# Altium footprint library Connector.PcbLib: 116 footprints (part 7 of 8)
Each footprint in its own frame and in the unit in brackets; x right, y up, seen from the top. Pads: shape width x height; smd on the part's side, far side on the other; paste and mask are expansions set on the pad; w line width, h text height; cw(c..) or ccw(c..) is an arc to the next point about the centre after c.
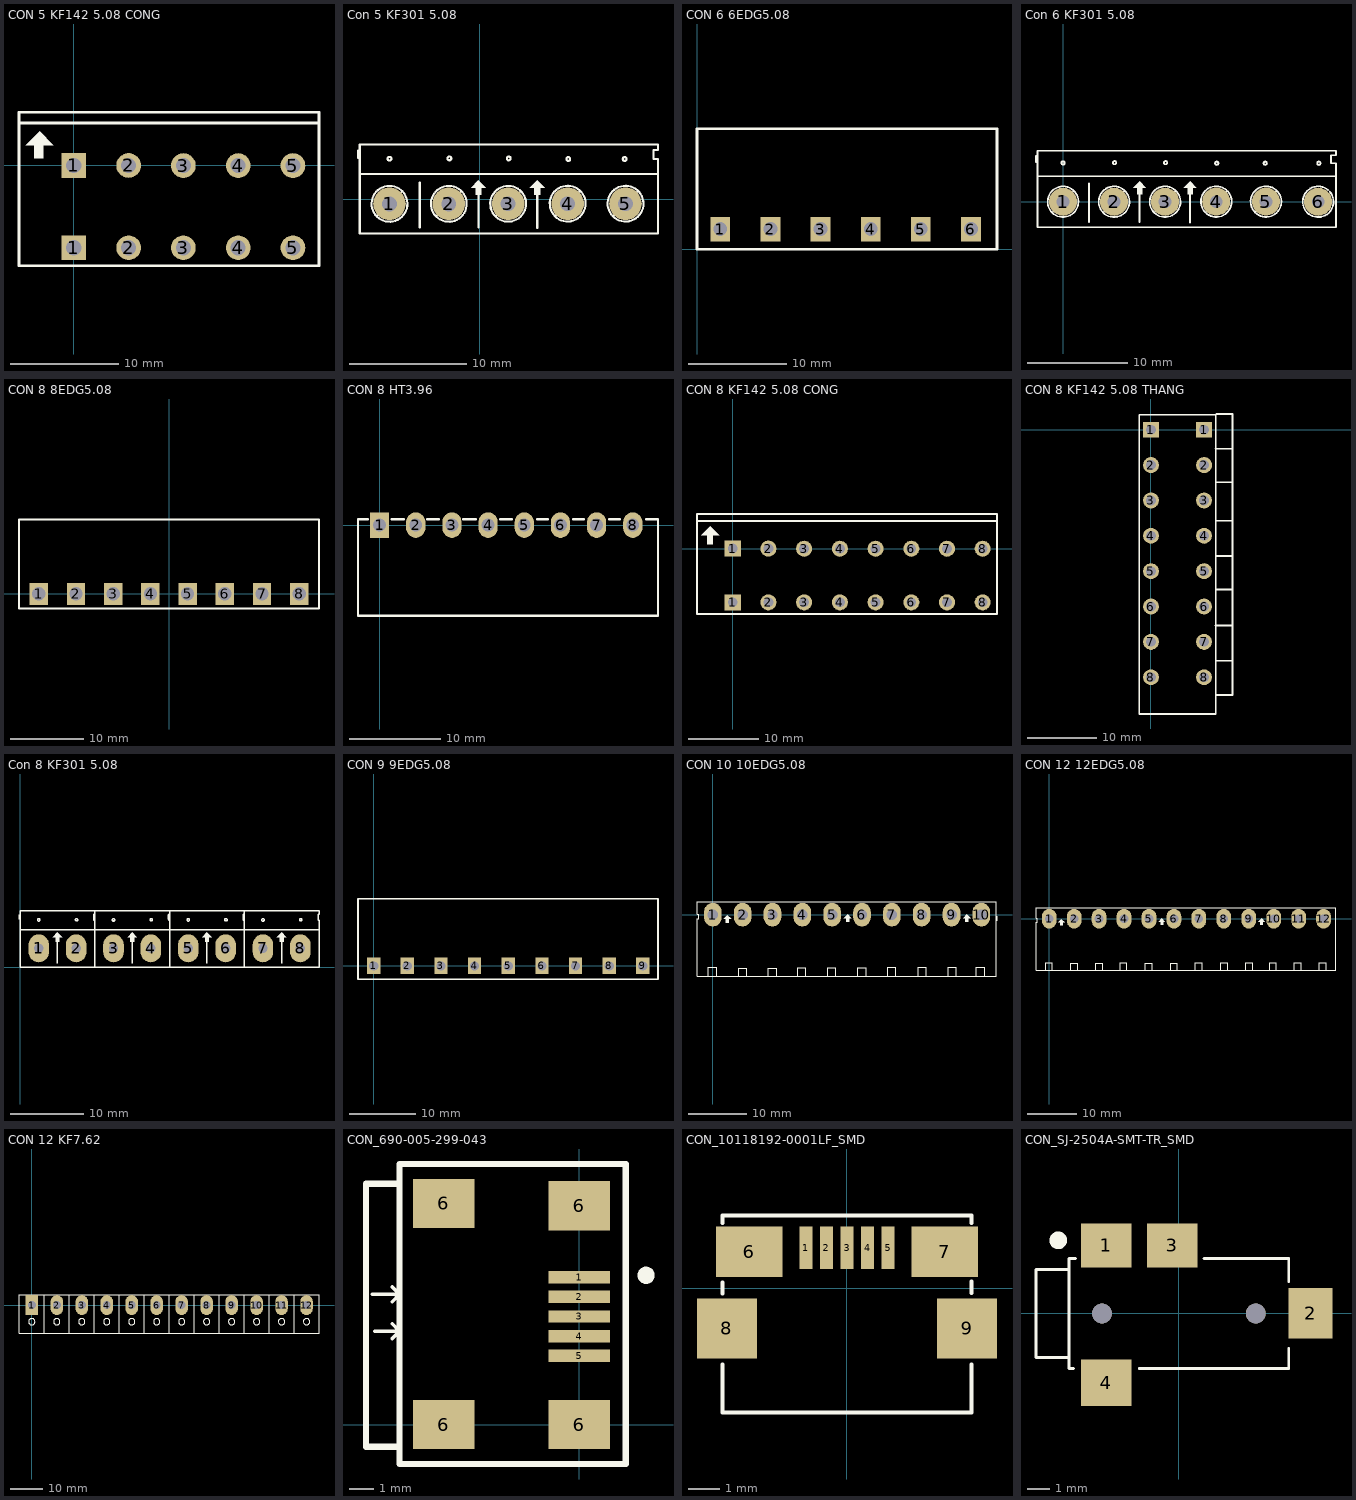
[diagram p6: the footprints below, top view; thin cyan lines are the x and y axes]

## CON 5 KF142 5.08 CONG [mil]
pads (10):
  rect 90x90 hole 55.12: 1(0,-300.39) 1(0,0)
  round 90 hole 55.12: 2(200,-300.39) 2(200,0) 3(400,-300.39) 3(400,-0.39) 4(600,-300.39) 4(600,-0.39) 5(800,-300.39) 5(800,-0.39)
Top Overlay:
  rectangle: -145,24.61 -110,74.61
  region: -175,74.61 -125,124.61 -75,74.61
  lines w10: -200,64.61 -200,154.61 ; -200,65.61 -200,-366.39 895,-366.39 ; 890,154.61 -200,154.61 ; 895,-365 895,190 ; 895,194.61 -200,194.61 -200,154.61
3D body "Terminal Blocks Fixed SPRING 5PIN.stp": height 520.69, standoff -137.32, extent -194.21,-370 904.21,190.69

## Con 5 KF301 5.08 [mil]
pads (5):
  round 110 hole 50: 1(-305,-15) 2(-105,-15) 3(95.06,-14.94) 4(295.39,-14.61) 5(490.39,-14.61)
Top Overlay:
  circle w7: c487.6,136 r6.4
  circle w7: c-103,138 r6.4
  circle w7: c-305,137 r6.4
  circle w7: c97,138 r6.4
  circle w7: c297.6,136 r6.4
  region: 193,65 168,40 183,40 183,15 203,15 203,40 218,40
  region: -5,65 -30,40 -15,40 -15,15 5,15 5,40 20,40
  lines w7: -411,140 -411,165 ; -405,85 600,85 ; -347,-57 -262,28 ; -265.96,31.05 ccw(c-305,-15) -259.82,25.05 ; -203,-94 -203,57 ; -147,-57 -62.5,27.5 ; -65.24,30.44 ccw(c-105,-15) -59.82,25.05 ; -5,-94 -5,25 ; 53.5,-56.5 137.5,27.5 ; 134.27,30.97 ccw(c95.06,-14.94) 140.19,25.17 ; 192.97,-96.03 192.97,54.97 ; 254,-56 338.5,28.5 ; 335.16,31.18 ccw(c295.59,-14.41) 341.12,25.23 ; 449,-56 533.5,28.5 ; 530.16,31.18 ccw(c490.59,-14.41) 536.12,25.23 ; -405,-115 -405,35 -405,185 600,185 600,167 585,167 585,136 600,136 600,-115 -405,-115

## CON 6 6EDG5.08 [mm]
pads (6):
  rect 2x2.5 hole 1.4: 1(2.362,2.057) 2(7.442,2.057) 3(12.522,2.057) 4(17.602,2.057) 5(22.682,2.057) 6(27.762,2.057)
Top Overlay:
  lines w0.254: 16.205,12.217 30.404,12.217 30.404,0.025 30.302,0.025 20.142,0.025 9.982,0.025 0,0.025 0,12.217 20.142,12.217
3D body "User Library-BigHeader 5EHDR_1P.step": height 3.15, standoff -9.32, extent 25.262,0.308 30.262,12.308
3D body "User Library-BigHeader 5EHDR_1P.step": height 3.15, standoff -9.32, extent 20.182,0.308 25.182,12.308
3D body "User Library-BigHeader 5EHDR_1P.step": height 3.15, standoff -9.32, extent 15.102,0.308 20.102,12.308
3D body "User Library-BigHeader 5EHDR_1P.step": height 3.15, standoff -9.32, extent 10.022,0.308 15.022,12.308
3D body "User Library-BigHeader 5EHDR_1P.step": height 3.15, standoff -9.32, extent 4.942,0.308 9.942,12.308
3D body "User Library-BigHeader 5EHDR_1P.step": height 3.15, standoff -9.32, extent -0.138,0.308 4.862,12.308

## Con 6 KF301 5.08 [mil]
pads (6):
  round 110 hole 50: 1(0,0) 2(200,0) 3(400.06,0.06) 4(600.39,0.39) 5(795.39,0.39) 6(1000,0)
Top Overlay:
  circle w7: c602.6,151 r6.4
  circle w7: c402,153 r6.4
  circle w7: c0,152 r6.4
  circle w7: c202,153 r6.4
  circle w7: c792.6,151 r6.4
  circle w7: c1002.6,151 r6.4
  region: 300,80 275,55 290,55 290,30 310,30 310,55 325,55
  region: 498,80 473,55 488,55 488,30 508,30 508,55 523,55
  lines w7: -106,155 -106,180 ; -100,100 1070,100 ; -42,-42 43,43 ; 39.04,46.05 ccw(c0,0) 45.18,40.05 ; 102,-79 102,72 ; 158,-42 242.5,42.5 ; 239.76,45.44 ccw(c200,0) 245.18,40.05 ; 300,-79 300,40 ; 358.5,-41.5 442.5,42.5 ; 439.27,45.97 ccw(c400.06,0.06) 445.19,40.17 ; 497.97,-81.03 497.97,69.97 ; 559,-41 643.5,43.5 ; 640.16,46.18 ccw(c600.59,0.59) 646.12,40.23 ; 754,-41 838.5,43.5 ; 835.16,46.18 ccw(c795.59,0.59) 841.12,40.23 ; 1039.57,45.6 ccw(c1000,0) 1045.53,39.65 ; -100,-100 1070,-100 1070,151 1050,151 1050,182 1070,182 1070,200 -100,200 -100,50 -100,-100
3D body "SW3dPS-KRM2.STEP": height 393.7, standoff -157.48, extent 683.15,-100 1076.85,195.28
3D body "SW3dPS-KRM2.STEP": height 393.7, standoff -157.48, extent 293.15,-100 686.85,195.28
3D body "SW3dPS-KRM2.STEP": height 393.7, standoff -157.48, extent -96.85,-100 296.85,195.28

## CON 8 8EDG5.08 [mm]
pads (8):
  rect 2.5x3 hole 1.8: 1(-17.78,0) 2(-12.7,0) 3(-7.62,0) 4(-2.54,0) 5(2.54,0) 6(7.62,0) 7(12.7,0) 8(17.78,0)
Top Overlay:
  lines w0.254: -3.937,10.16 20.475,10.16 20.475,-2.032 10.16,-2.032 0,-2.032 -10.16,-2.032 -20.475,-2.032 -20.475,10.16 0,10.16
3D body "User Library-BigHeader 5EHDR_1P.step": height 3.15, standoff -9.32, extent 15.28,-1.75 20.28,10.25
3D body "User Library-BigHeader 5EHDR_1P.step": height 3.15, standoff -9.32, extent 10.2,-1.75 15.2,10.25
3D body "User Library-BigHeader 5EHDR_1P.step": height 3.15, standoff -9.32, extent 5.12,-1.75 10.12,10.25
3D body "User Library-BigHeader 5EHDR_1P.step": height 3.15, standoff -9.32, extent 0.04,-1.75 5.04,10.25
3D body "User Library-BigHeader 5EHDR_1P.step": height 3.15, standoff -9.32, extent -5.04,-1.75 -0.04,10.25
3D body "User Library-BigHeader 5EHDR_1P.step": height 3.15, standoff -9.32, extent -10.12,-1.75 -5.12,10.25
3D body "User Library-BigHeader 5EHDR_1P.step": height 3.15, standoff -9.32, extent -15.2,-1.75 -10.2,10.25
3D body "User Library-BigHeader 5EHDR_1P.step": height 3.15, standoff -9.32, extent -20.28,-1.75 -15.28,10.25

## CON 8 HT3.96 [mm]
pads (8):
  rect 2.1x2.794 hole 1.4: 1(0,0)
  oval 2.1x2.794 hole 1.4: 2(3.96,0) 3(7.92,0) 4(11.88,0) 5(15.84,0) 6(19.8,0) 7(23.76,0) 8(27.72,0)
Top Overlay:
  lines w0.254: -1.295,0.635 -2.362,0.635 -2.362,-9.906 30.48,-9.906 30.48,0.381 ; 1.295,0.635 2.667,0.635 ; 5.207,0.635 6.477,0.635 ; 9.144,0.635 10.541,0.635 ; 13.208,0.635 14.478,0.635 ; 17.272,0.635 18.415,0.635 ; 21.209,0.635 22.352,0.635 ; 25.146,0.635 26.289,0.635 ; 29.21,0.635 30.48,0.635 30.48,0.254
3D body "Con 2 KF396.stp": height 7.02, standoff 0.02, extent -1.968,-10.025 6.032,-0.025
3D body "Con 2 KF396.stp": height 7.02, standoff 0.02, extent 6.122,-10.025 14.122,-0.025
3D body "Con 2 KF396.stp": height 7.02, standoff 0.02, extent 14.161,-10.025 22.161,-0.025
3D body "Con 2 KF396.stp": height 7.02, standoff 0.02, extent 22.219,-10.025 30.219,-0.025

## CON 8 KF142 5.08 CONG [mil]
pads (16):
  rect 90x90 hole 55.12: 1(0,-300.39) 1(0,0)
  round 90 hole 55.12: 2(200,-300.39) 2(200,0) 3(400,-300.39) 3(400,-0.39) 4(600,-300.39) 4(600,-0.39) 5(800,-300.39) 5(800,-0.39) 6(1000,-300.39) 6(1000,-0.39) 7(1200,-300.39) 7(1200,-0.39) 8(1400,-300.39) 8(1400,-0.39)
Top Overlay:
  rectangle: -145,24.61 -110,74.61
  region: -175,74.61 -125,124.61 -75,74.61
  lines w10: -200,64.61 -200,154.61 ; -200,65.61 -200,-366.39 1480,-366.39 1480,65.61 ; 1480,64.61 1480,154.61 -200,154.61 ; 1480,159.61 1480,194.61 -200,194.61 -200,154.61
3D body "Terminal Blocks Fixed SPRING 8PIN.stp": height 520.71, standoff -137.64, extent -193.23,-370.94 1480,190.15

## CON 8 KF142 5.08 THANG [mil]
pads (16):
  rect 90x90 hole 55.12: 1(0,0) 1(300.39,0)
  round 90 hole 55.12: 2(0,-200) 2(300.39,-200) 3(0,-400) 3(300,-400) 4(0,-600) 4(300,-600) 5(0,-800) 5(300,-800) 6(0,-1000) 6(300,-1000) 7(0,-1200) 7(300,-1200) 8(0,-1400) 8(300,-1400)
Top Overlay:
  lines w10: 364,-108 460,-108 ; 365,-1107 459,-1107 ; 367,-1500 461,-1500 461,89 369,89 ; 367,-1307 462,-1307 ; 367,-904 458,-904 ; 367,-297 460,-297 ; 368,-714 462,-714 ; 371,-515 459,-515 ; -66,-1608 -66,85 366,85 366,-1608 -66,-1608
3D body "Con 8 KF 142 5.08 Thang.stp": height 559.66, standoff -154.91, extent -61.83,-1609.43 457.83,89

## Con 8 KF301 5.08 [mm]
pads (8):
  oval 2.794x3.8 hole 1.27: 1(2.54,2.54) 2(7.62,2.54) 3(12.7,2.54) 4(17.78,2.54) 5(22.86,2.54) 6(27.94,2.54) 7(33.02,2.54) 8(38.1,2.54)
Top Overlay:
  circle w0.178: c2.54,6.401 r0.163
  circle w0.178: c7.671,6.426 r0.163
  circle w0.178: c12.7,6.401 r0.163
  circle w0.178: c17.831,6.426 r0.163
  circle w0.178: c22.86,6.401 r0.163
  circle w0.178: c27.991,6.426 r0.163
  circle w0.178: c38.151,6.426 r0.163
  circle w0.178: c33.02,6.401 r0.163
  region: 5.08,4.699 4.445,4.064 4.826,4.064 4.826,3.429 5.334,3.429 5.334,4.064 5.715,4.064
  region: 15.24,4.699 14.605,4.064 14.986,4.064 14.986,3.429 15.494,3.429 15.494,4.064 15.875,4.064
  region: 25.4,4.699 24.765,4.064 25.146,4.064 25.146,3.429 25.654,3.429 25.654,4.064 26.035,4.064
  region: 35.56,4.699 34.925,4.064 35.306,4.064 35.306,3.429 35.814,3.429 35.814,4.064 36.195,4.064
  lines w0.178: -0.152,6.477 -0.152,7.112 ; 0.051,5.08 10.135,5.08 ; 5.08,0.533 5.08,4.369 ; 10.008,6.477 10.008,7.112 ; 10.211,5.08 20.295,5.08 ; 15.24,0.533 15.24,4.369 ; 20.168,6.477 20.168,7.112 ; 20.371,5.08 30.455,5.08 ; 25.4,0.533 25.4,4.369 ; 30.328,6.477 30.328,7.112 ; 30.531,5.08 40.615,5.08 ; 35.56,0.533 35.56,4.369 ; 10.16,0 0,0 0,3.81 0,7.62 10.16,7.62 ; 10.16,0 10.16,6.375 10.033,6.375 10.033,7.163 10.16,7.163 10.16,7.62 ; 10.16,0 20.32,0 ; 10.16,0 10.16,3.81 10.16,7.62 ; 10.16,7.62 20.32,7.62 ; 20.32,0 20.32,6.375 20.193,6.375 20.193,7.163 20.32,7.163 20.32,7.62 ; 20.32,0 30.48,0 ; 20.32,0 20.32,3.81 20.32,7.62 ; 20.32,7.62 30.48,7.62 ; 30.48,0 30.48,6.375 30.353,6.375 30.353,7.163 30.48,7.163 30.48,7.62 ; 30.48,0 30.48,3.81 30.48,7.62 ; 30.48,0 40.64,0 40.64,6.375 40.513,6.375 40.513,7.163 40.64,7.163 40.64,7.62 30.48,7.62
3D body "SW3dPS-KRM2.STEP": height 10, standoff -4, extent 0.08,0.06 10.08,7.56
3D body "SW3dPS-KRM2.STEP": height 10, standoff -4, extent 10.24,0.06 20.24,7.56
3D body "SW3dPS-KRM2.STEP": height 10, standoff -4, extent 20.4,0.06 30.4,7.56
3D body "SW3dPS-KRM2.STEP": height 10, standoff -4, extent 30.56,0.06 40.56,7.56

## CON 9 9EDG5.08 [mm]
pads (9):
  rect 2x2.5 hole 1.4: 1(0,0) 2(5.08,0) 3(10.16,0) 4(15.24,0) 5(20.32,0) 6(25.4,0) 7(30.48,0) 8(35.56,0) 9(40.64,0)
Top Overlay:
  lines w0.254: 13.843,10.16 42.926,10.16 42.926,-2.032 27.94,-2.032 17.78,-2.032 7.62,-2.032 -2.362,-2.032 -2.362,10.16 17.78,10.16
3D body "User Library-BigHeader 5EHDR_1P.step": height 3.15, standoff -9.32, extent 33.06,-1.75 38.06,10.25
3D body "User Library-BigHeader 5EHDR_1P.step": height 3.15, standoff -9.32, extent 27.98,-1.75 32.98,10.25
3D body "User Library-BigHeader 5EHDR_1P.step": height 3.15, standoff -9.32, extent 22.9,-1.75 27.9,10.25
3D body "User Library-BigHeader 5EHDR_1P.step": height 3.15, standoff -9.32, extent 17.82,-1.75 22.82,10.25
3D body "User Library-BigHeader 5EHDR_1P.step": height 3.15, standoff -9.32, extent 12.74,-1.75 17.74,10.25
3D body "User Library-BigHeader 5EHDR_1P.step": height 3.15, standoff -9.32, extent 7.66,-1.75 12.66,10.25
3D body "User Library-BigHeader 5EHDR_1P.step": height 3.15, standoff -9.32, extent 2.58,-1.75 7.58,10.25
3D body "User Library-BigHeader 5EHDR_1P.step": height 3.15, standoff -9.32, extent -2.5,-1.75 2.5,10.25
3D body "User Library-BigHeader 5EHDR_1P.step": height 3.15, standoff -9.32, extent 38.14,-1.75 43.14,10.25

## CON 10 10EDG5.08 [mm]
pads (10):
  oval 3x4 hole 1.778: 1(0,0) 2(5.08,0) 3(10.16,0) 4(15.24,0) 5(20.32,0) 6(25.4,0) 7(30.48,0) 8(35.56,0) 9(40.645,0) 10(45.73,0)
Top Overlay:
  region: 2.489,-0.076 3.124,-0.711 2.743,-0.711 2.743,-1.346 2.235,-1.346 2.235,-0.711 1.854,-0.711
  region: 22.936,0.051 23.571,-0.584 23.19,-0.584 23.19,-1.219 22.682,-1.219 22.682,-0.584 22.301,-0.584
  region: 43.256,0.051 43.891,-0.584 43.51,-0.584 43.51,-1.219 43.002,-1.219 43.002,-0.584 42.621,-0.584
  lines w0.178: -0.737,-10.389 -0.737,-8.992 0.66,-8.992 0.66,-10.389 ; 4.42,-10.49 4.42,-9.093 5.817,-9.093 5.817,-10.49 ; 9.474,-10.49 9.474,-9.093 10.871,-9.093 10.871,-10.49 ; 14.427,-10.414 14.427,-9.017 15.824,-9.017 15.824,-10.414 ; 19.558,-10.465 19.558,-9.068 20.955,-9.068 20.955,-10.465 ; 24.714,-10.465 24.714,-9.068 26.111,-9.068 26.111,-10.465 ; 29.769,-10.363 29.769,-8.966 31.166,-8.966 31.166,-10.363 ; 34.976,-10.389 34.976,-8.992 36.373,-8.992 36.373,-10.389 ; 40.056,-10.389 40.056,-8.992 41.453,-8.992 41.453,-10.389 ; 44.882,-10.389 44.882,-8.992 46.279,-8.992 46.279,-10.389 ; 48.387,-1.016 48.387,-0.254 ; -2.692,0.051 -2.388,0.051 -2.388,-0.711 -2.667,-0.711 -2.667,-10.49 48.26,-10.49 48.26,2.21 -2.692,2.21 -2.692,0.051
3D body "User Library-BigHeader 5EHDR_1P.step": height 3.24, standoff -9.23, extent -2.54,-10.318 2.46,1.682
3D body "User Library-BigHeader 5EHDR_1P.step": height 3.24, standoff -9.23, extent 2.54,-10.318 7.54,1.682
3D body "User Library-BigHeader 5EHDR_1P.step": height 3.24, standoff -9.23, extent 7.62,-10.318 12.62,1.682
3D body "User Library-BigHeader 5EHDR_1P.step": height 3.24, standoff -9.23, extent 12.7,-10.318 17.7,1.682
3D body "User Library-BigHeader 5EHDR_1P.step": height 3.24, standoff -9.23, extent 17.78,-10.318 22.78,1.682
3D body "User Library-BigHeader 5EHDR_1P.step": height 3.24, standoff -9.23, extent 22.86,-10.318 27.86,1.682
3D body "User Library-BigHeader 5EHDR_1P.step": height 3.24, standoff -9.23, extent 27.94,-10.318 32.94,1.682
3D body "User Library-BigHeader 5EHDR_1P.step": height 3.24, standoff -9.23, extent 33.02,-10.318 38.02,1.682
3D body "User Library-BigHeader 5EHDR_1P.step": height 3.24, standoff -9.23, extent 38.1,-10.318 43.1,1.682
3D body "User Library-BigHeader 5EHDR_1P.step": height 3.24, standoff -9.23, extent 43.18,-10.318 48.18,1.682

## CON 12 12EDG5.08 [mm]
pads (12):
  oval 3x4 hole 1.778: 1(0,0) 2(5.08,0) 3(10.16,0) 4(15.24,0) 5(20.32,0) 6(25.4,0) 7(30.48,0) 8(35.56,0) 9(40.645,0) 10(45.73,0) 11(50.81,0) 12(55.89,0)
Top Overlay:
  region: 2.489,-0.076 3.124,-0.711 2.743,-0.711 2.743,-1.346 2.235,-1.346 2.235,-0.711 1.854,-0.711
  region: 22.936,0.051 23.571,-0.584 23.19,-0.584 23.19,-1.219 22.682,-1.219 22.682,-0.584 22.301,-0.584
  region: 43.256,0.051 43.891,-0.584 43.51,-0.584 43.51,-1.219 43.002,-1.219 43.002,-0.584 42.621,-0.584
  lines w0.178: -0.737,-10.389 -0.737,-8.992 0.66,-8.992 0.66,-10.389 ; 4.42,-10.49 4.42,-9.093 5.817,-9.093 5.817,-10.49 ; 9.474,-10.49 9.474,-9.093 10.871,-9.093 10.871,-10.49 ; 14.427,-10.414 14.427,-9.017 15.824,-9.017 15.824,-10.414 ; 19.558,-10.465 19.558,-9.068 20.955,-9.068 20.955,-10.465 ; 24.714,-10.465 24.714,-9.068 26.111,-9.068 26.111,-10.465 ; 29.769,-10.363 29.769,-8.966 31.166,-8.966 31.166,-10.363 ; 34.976,-10.389 34.976,-8.992 36.373,-8.992 36.373,-10.389 ; 40.056,-10.389 40.056,-8.992 41.453,-8.992 41.453,-10.389 ; 44.882,-10.389 44.882,-8.992 46.279,-8.992 46.279,-10.389 ; 49.962,-10.389 49.962,-8.992 51.359,-8.992 51.359,-10.389 ; 55.042,-10.389 55.042,-8.992 56.439,-8.992 56.439,-10.389 ; 58.42,-1.016 58.42,-0.254 ; -2.692,0.051 -2.388,0.051 -2.388,-0.711 -2.667,-0.711 -2.667,-10.49 58.42,-10.49 58.42,2.21 -2.692,2.21 -2.692,0.051
3D body "User Library-BigHeader 5EHDR_1P.step": height 3.24, standoff -9.23, extent -2.54,-10.318 2.46,1.682
3D body "User Library-BigHeader 5EHDR_1P.step": height 3.24, standoff -9.23, extent 2.54,-10.318 7.54,1.682
3D body "User Library-BigHeader 5EHDR_1P.step": height 3.24, standoff -9.23, extent 7.62,-10.318 12.62,1.682
3D body "User Library-BigHeader 5EHDR_1P.step": height 3.24, standoff -9.23, extent 12.7,-10.318 17.7,1.682
3D body "User Library-BigHeader 5EHDR_1P.step": height 3.24, standoff -9.23, extent 17.78,-10.318 22.78,1.682
3D body "User Library-BigHeader 5EHDR_1P.step": height 3.24, standoff -9.23, extent 22.86,-10.318 27.86,1.682
3D body "User Library-BigHeader 5EHDR_1P.step": height 3.24, standoff -9.23, extent 27.94,-10.318 32.94,1.682
3D body "User Library-BigHeader 5EHDR_1P.step": height 3.24, standoff -9.23, extent 33.02,-10.318 38.02,1.682
3D body "User Library-BigHeader 5EHDR_1P.step": height 3.24, standoff -9.23, extent 38.1,-10.318 43.1,1.682
3D body "User Library-BigHeader 5EHDR_1P.step": height 3.24, standoff -9.23, extent 43.18,-10.318 48.18,1.682
3D body "User Library-BigHeader 5EHDR_1P.step": height 3.24, standoff -9.23, extent 48.26,-10.293 53.26,1.707
3D body "User Library-BigHeader 5EHDR_1P.step": height 3.24, standoff -9.23, extent 53.34,-10.293 58.34,1.707

## CON 12 KF7.62 [mil]
pads (12):
  rect 150x240 hole 95: 1(0,0)
  oval 150x240 hole 95: 2(300,0) 3(600,0) 4(900,0) 5(1200,0) 6(1500,0) 7(1800,0) 8(2100,0) 9(2400,0) 10(2700,0) 11(3000,0) 12(3300,0)
Top Overlay:
  circle w8: c0,-200 r38.08
  circle w8: c300,-200 r38.08
  circle w8: c3300,-200 r38.08
  circle w8: c3000,-200 r38.08
  circle w8: c2700,-200 r38.08
  circle w8: c2400,-200 r38.08
  circle w8: c2100,-200 r38.08
  circle w8: c1800,-200 r38.08
  circle w8: c1500,-200 r38.08
  circle w8: c1200,-200 r38.08
  circle w8: c900,-200 r38.08
  circle w8: c600,-200 r38.08
  lines w7.87: 150,-340.06 150,125 ; 450,-340.06 450,125 ; 454.7,125 -154.54,125 -154.54,-339.27 -154.54,-339.67 3450,-339.67 3450,125 455.12,125 ; 750,-340.06 750,125 ; 1050,-340.06 1050,125 ; 1350,-340.06 1350,125 ; 1650,-340.06 1650,125 ; 1950,-340.06 1950,125 ; 2250,-340.06 2250,125 ; 2550,-340.06 2550,125 ; 2850,-340.06 2850,125 ; 3150,-340.06 3150,125
3D body "Con 2 KF7.62.step": height 492.61, standoff -245.58, extent -150,-370 450,122.12
3D body "Con 2 KF7.62.step": height 492.61, standoff -245.58, extent 450,-370 1050,122.12
3D body "Con 2 KF7.62.step": height 492.61, standoff -245.58, extent 2850,-370 3450,122.12
3D body "Con 2 KF7.62.step": height 492.61, standoff -245.58, extent 2250,-370 2850,122.12
3D body "Con 2 KF7.62.step": height 492.61, standoff -245.58, extent 1650,-370 2250,122.12
3D body "Con 2 KF7.62.step": height 492.61, standoff -245.58, extent 1050,-370 1650,122.12

## CON_690-005-299-043 [mm] "USB MINI-B"
height 6.5
pads (9):
  rect 2.5x0.5 smd: 1(0,6) 2(0,5.2) 3(0,4.4) 4(0,3.6) 5(0,2.8)
  rect 2.5x2 smd: 6(-5.5,0) 6(-5.5,9) 6(0,0) 6(0,8.9)
Top Overlay:
  circle w0.381: c2.725,6.075 r0.158
  lines w0.152: -8.4,5.3 -7.4,5.3 ; -8.3,3.8 -7.4,3.8 ; -7.6,3.5 -7.3,3.8 -7.6,4.1 ; -7.6,5 -7.3,5.3 -7.6,5.6
  lines w0.254: -8.4,9.8 -7.3,9.8 ; -7.3,-0.9 -8.661,-0.9 -8.661,9.8 -7.3,9.8 ; -7.3,5 -7.3,4.9 ; -7.3,9.7 -7.3,10.6 1.9,10.6 1.9,-1.6 -7.3,-1.6 -7.3,9.8 ; -7.3,4.9 -7.3,4.9
3D body "5889.stp": height 3.96, standoff 0.01, extent -8.4,-0.55 0.6,9.35

## CON_10118192-0001LF_SMD [mm] "USB2.0 MICRO"
height 1.85
pads (9):
  rect 0.4x1.35 smd: 1(-1.3,1.275) 2(-0.65,1.275) 3(0,1.275) 4(0.65,1.275) 5(1.3,1.275)
  rect 2.1x1.6 smd: 6(-3.1,1.15) 7(3.1,1.15)
  rect 1.9x1.9 smd: 8(-3.8,-1.275) 9(3.8,-1.275)
Top Overlay:
  lines w0.127: -3.95,-2.421 -3.95,-3.945 3.95,-3.945 3.95,-2.421 ; -3.95,-0.178 -3.95,0.178 ; -3.95,2.057 -3.95,2.3 3.95,2.3 3.95,2.057 ; 3.95,-0.152 3.95,0.203
3D body "zx62-b-5pa_33_.stp": height 2.81, standoff -0.14, extent -4.037,-3.945 4.037,1.655

## CON_SJ-2504A-SMT-TR_SMD [mm]
pads (6):
  rect 2.3x2 smd: 1(-3.3,3.1) 3(-0.3,3.1)
  rect 2x2.3 smd: 2(6,0)
  rect 2.3x2.1 smd: 4(-3.3,-3.15)
  round 0.9 hole 0.9 unplated: ""(-3.5,0) ""(3.5,0)
Top Overlay:
  circle w0.4: c-5.486,3.327 r0.2
  lines w0.127: -4.8,-2.5 -5,-2.5 -5,-2 ; -4.7,2.5 -5,2.5 -5,2 ; -1.8,-2.5 5,-2.5 5,-1.6 ; 1.15,2.5 5,2.5 5,1.45 ; -5,-2 -5,2 ; -5,-2 -6.5,-2 -6.5,2 -5,2
3D body "User Library-JY2512.step": height 4.01, standoff -0.79, extent -6.5,-4 6.5,4